# Altium schematic symbol library GN-1876-HI3519AV100_V1_Library.SchLib: 75 symbols (part 3 of 3)
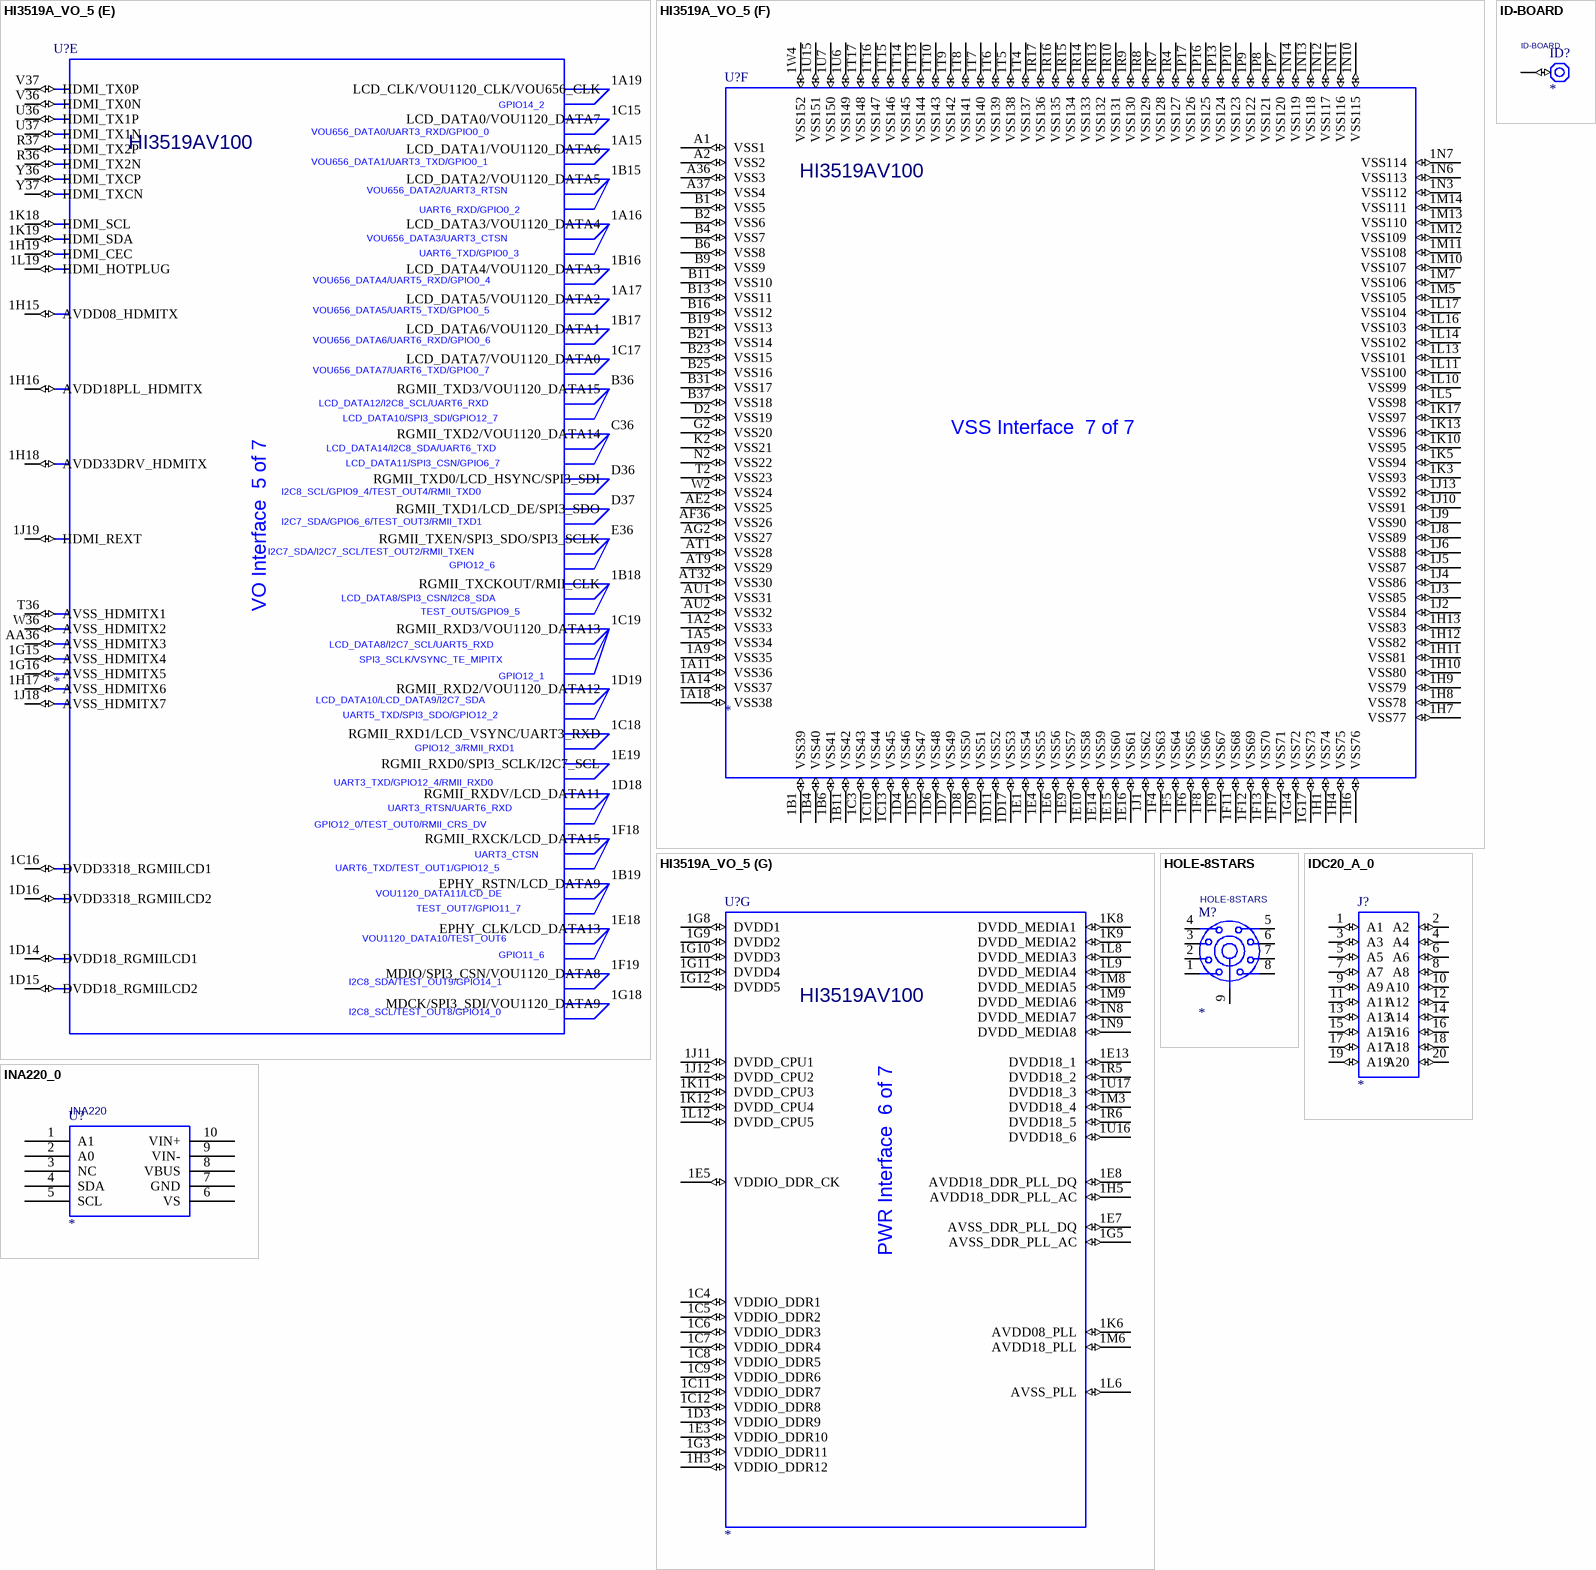
[diagram p25: symbols HI3519A_VO_5 to INA220_0]

## HI3519A_VO_5
designator U?  DEVICE: HI3519AV100
PARTS: 1; OriginalSymbolOrigin: (0,0); LEVEL: STD; HETERO: (HI3519A_DDR),(HI3519A_MIPI),(HI3519A_PER),(HI3519A_SYS),(HI3519A_VO),(HI3519A_PWR),(HI3519A_VSS)
part A pins: 1A1 DDR_DQ18 (io), 1A3 DDR_DQS2_P (io), 1A4 DDR_DQ17 (io), 1A6 DDR_DQ28 (io), 1A7 DDR_DQ4 (io), 1A8 DDR_DQ3 (io), 1A10 DDR_DQS0_N (io), 1A12 DDR_DQ5 (io), 1A13 DDR_DQ8 (io), 1B2 DDR_A14 (io), 1B3 DDR_DQS2_N (io), 1B5 DDR_DQ16 (io), 1B7 DDR_DQ6 (io), 1B8 DDR_DQ2 (io), 1B9 DDR_DM1 (io), 1B10 DDR_DQS0_P (io), 1B12 DDR_DQ10 (io), 1B13 DDR_DQ11 (io), 1C1 DDR_ODT0 (io), 1C2 DDR_ACT (io), 1D1 DDR_A10 (io), 1D2 DDR_A16 (io), 1E2 DDR_BA0 (io), 1F1 DDR_ODT1 (io), 1F2 DDR_CKE1 (io), 1F3 DDR_BG1 (io), 1G1 DDR_A13 (io), 1G2 DDR_RESET_N (io), 1H2 DDR_A11 (io), A3 DDR_DQ20 (io), A5 DDR_DQ23 (io), A7 DDR_DM2 (io), A8 DDR_DQ29 (io), A10 DDR_DQS3_P (io), A12 DDR_DM3 (io), A14 DDR_DQ30 (io), A15 DDR_DQ31 (io), A17 DDR_DQ7 (io), A18 DDR_DQ14 (io), A20 DDR_DQS1_P (io), A22 DDR_DQ1 (io), A23 DDR_DM0 (io), A24 DDR_DQ9 (io), B3 DDR_DQ22 (io), B5 DDR_DQ21 (io), B7 DDR_DQ19 (io), B8 DDR_DQ25 (io), B10 DDR_DQS3_N (io), B12 DDR_DQ26 (io), B14 DDR_DQ24 (io), B15 DDR_DQ27 (io), B17 DDR_DQ0 (io), B18 DDR_DQ12 (io), B20 DDR_DQS1_N (io), B22 DDR_DQ15 (io), B24 DDR_DQ13 (io), C1 DDR_CLK0_P (io), C2 DDR_CLK0_N (io), E1 DDR_CLK1_N (io), E2 DDR_CLK1_P (io), F1 DDR_CKE0 (io), F2 DDR_A12 (io), H1 DDR_A15 (io), H2 DDR_CS0_N (io), J1 DDR_BA1 (io), J2 DDR_CS1_N (io), L1 DDR_A3 (io), L2 DDR_BG0 (io), M1 DDR_A2 (io), M2 DDR_A4 (io), P1 DDR_A9 (io), P2 DDR_A0 (io), R1 DDR_A1 (io), R2 DDR_A5 (io), U1 DDR_A7 (io), U2 DDR_A6 (io), V1 DDR_A8 (io), V2 DDR_ZQ (io)
part B pins: 1B14 DVDD33, 1C14 DVDD3318, 1E11 DVDD18_LDO_DECAP_2, 1E12 DVDD18_LDO_DECAP_1, 1E17 DVDD3318_SDIO_VOUT, 1J15 AVDD08_COMBO_PHY, 1J16 AVSS_COMBO_PHY1, 1J17 AVSS_COMBO_PHY2, 1K16 AVDD18_COMBO_PHY, 1L15 AVDDH33_USB1, 1L18 PCIE_CLK_REQ_N, 1M15 AVDD33_USB1, 1M16 AVDD33_USB0, 1M17 AVDDH33_USB0, 1M18 USB3_REXT, 1M19 USB3_ID, 1N16 DVDD_USB1, 1N17 DVDD_USB0, 1N18 USB2_ID, 1N19 USB3_VBUS, 1P14 AVDD18_AC, 1P15 AVSS_AC9, 1P18 USB2_REXT, 1P19 USB2_VBUS, 1R18 USB_OVRCUR1/GPIO9_3, 1R19 USB_PWREN1/GPIO9_2, 1T18 USB_OVRCUR0/GPIO9_1, 1T19 USB_PWREN0/GPIO9_0, 1U18 UART2_TXD/GPIO6_5, 1U19 UART1_RTSN/UART4_RXD/GPIO8_6, 1V17 UART2_RXD/GPIO6_4, 1V18 UART1_TXD/GPIO8_5, 1V19 UART1_RXD/GPIO8_4, 1W19 UART1_CTSN/UART4_TXD/GPIO8_7, A27 SDIO0_CDATA2/VOU1120_DATA14, A29 SDIO0_CDATA0/VOU1120_DATA11, A31 SDIO0_CCLK_OUT/VOU1120_DATA8, A33 SDIO1_CCMD/LCD_DATA20/GPIO11_1, A35 SDIO1_CCLK_OUT/LCD_DATA23, AB36 COMBO_PHY_REFCLKP, AB37 COMBO_PHY_REFCLKM, AC36 AVSS_COMBO_PHY3, AD36 USB3_PCIE_TX0P, AD37 USB3_PCIE_TX0M, AE36 USB3_PCIE_RX0P, AE37 USB3_PCIE_RX0M, AG36 USB3_DP, AG37 USB3_DM, AH36 USB2_DM, AH37 USB2_DP, AJ2 UART0_TXD/GPIO1_5, AJ36 AVSS_AC1, AK2 UART0_RXD/GPIO1_4, AK36 AVSS_AC2, AK37 AC_VREF, AL35 AVSS_AC3, AL36 AC_MICBIAS1, AM36 AC_IN1R/AC_IN1N, AM37 AC_IN1L/AC_IN1P, AN36 AC_MICBIAS0, AP35 AVSS_AC4, AP36 AC_IN0R/AC_IN0N, AP37 AC_IN0L/AC_IN0P, AR36 AC_OUTR, AT35 AVSS_AC5, AT36 AC_OUTL, AT37 AVSS_AC6, AU36 AVSS_AC7, AU37 AVSS_AC8, B26 SDIO0_CCMD/VOU1120_DATA15, B27 SDIO0_CDATA3/VOU1120_DATA13, B28 SDIO0_CARD_POWER_EN, B29 SDIO0_CDATA1/VOU1120_DATA10, B30 SDIO0_CARD_DETECT, B32 SDIO1_CDATA2/LCD_DATA18, B33 SDIO1_CDATA3/LCD_DATA19, B34 SDIO1_CDATA0/LCD_DATA21, B35 SDIO1_CDATA1/LCD_DATA22
part C pins: 1F15 AVDD18_MIPITX (io), 1F16 AVSS_MIPITX5 (io), 1P11 AVDD18_MIPIRX (io), 1P12 AVDD08_MIPIRX (io), 1R11 AVSS_MIPIRX8 (io), 1R12 AVSS_MIPIRX9 (io), 1T11 AVSS_MIPIRX10 (io), 1T12 AVSS_MIPIRX11 (io), 1U3 SPI2_SDI/I2C6_SCL/GPIO4_6 (io), 1U4 SPI2_CSN/I2C6_SDA/GPIO4_7 (io), 1U5 SPI2_SCLK/I2C5_SCL/GPIO4_4 (io), 1U8 AVSS_MIPIRX12 (io), 1U9 AVSS_MIPIRX13 (io), 1U10 AVSS_MIPIRX14 (io), 1U11 AVSS_MIPIRX15 (io), 1U12 AVSS_MIPIRX16 (io), 1U13 AVSS_MIPIRX17 (io), 1U14 AVSS_MIPIRX18 (io), 1V4 SPI0_SDO/I2C1_SDA/GPIO3_1 (io), 1V5 SPI1_SDO/I2C3_SDA/GPIO3_5 (io), 1V6 SPI1_CSN/I2C4_SDA/GPIO3_7 (io), 1V7 AVSS_MIPIRX19 (io), 1V8 MIPI_RX2_D3N/VI0_DATA3 (io), 1V9 MIPI_RX2_D0P/VI0_DATA4 (io), 1V10 MIPI_RX1_CK1P (io), 1V11 AVSS_MIPIRX20 (io), 1V12 MIPI_RX1_D0N/VI1_DATA0/VI0_DATA8 (io), 1V13 MIPI_RX0_D1P (io), 1V14 MIPI_RX0_D2N (io), 1V15 AVSS_MIPIRX21 (io), 1V16 SENSOR_RSTN1/SENSOR_RSTN0 (io), 1W5 SPI2_SDO/I2C5_SDA/GPIO4_5 (io), 1W6 SPI0_CSN/I2C2_SDA/GPIO3_3 (io), 1W7 AVSS_MIPIRX22 (io), 1W8 MIPI_RX2_D3P/VI0_DATA7 (io), 1W9 MIPI_RX2_D0N/VI0_DATA0 (io), 1W10 MIPI_RX1_CK1N (io), 1W11 AVSS_MIPIRX23 (io), 1W12 MIPI_RX1_D0P/VI1_DATA4/VI0_DATA12 (io), 1W13 MIPI_RX0_D1N (io), 1W14 MIPI_RX0_D2P (io), 1W15 AVSS_MIPIRX24 (io), 1W16 SENSOR_HS0/COMBO_PHY_REFCLK_SEL (io), 1W17 SENSOR_RSTN0/SENSOR_RSTN1 (io), 1W18 SENSOR_VS1/BOOT_SEL4 (io), AT10 SPI1_SDI/I2C4_SCL/GPIO3_6 (io), AT11 SPI0_SDI/I2C2_SCL/GPIO3_2 (io), AT12 AVSS_MIPIRX1 (io), AT13 MIPI_RX2_CK1P/VI0_VS (io), AT14 AVSS_MIPIRX2 (io), AT15 MIPI_RX2_D1N/VI0_DATA1 (io), AT16 MIPI_RX2_CK0P (io), AT17 AVSS_MIPIRX3 (io), AT18 MIPI_RX2_D2N/VI0_DATA2 (io), AT19 MIPI_RX1_D3P/VI1_DATA7/VI0_DATA15 (io), AT20 AVSS_MIPIRX4 (io), AT21 MIPI_RX1_D1N/VI1_DATA1/VI0_DATA9 (io), AT22 MIPI_RX1_CK0P (io), AT23 AVSS_MIPIRX5 (io), AT24 MIPI_RX1_D2N/VI1_DATA2/VI0_DATA10 (io), AT25 MIPI_RX0_D3N (io), AT26 AVSS_MIPIRX6 (io), AT27 MIPI_RX0_CK0P (io), AT28 MIPI_RX0_D0N (io), AT29 AVSS_MIPIRX7 (io), AT30 SENSOR_VS0/BOOT_SEL3 (io), AT31 SENSOR_CLK2/BOOT_SEL2 (io), AT33 SENSOR_CLK0/BOOT_SEL0 (io), AT34 SENSOR_VS2/SFC_EMMC_BOOT_MODE (io), AU9 SPI1_SCLK/I2C3_SCL/GPIO3_4 (io), AU11 SPI0_SCLK/I2C1_SCL/GPIO3_0 (io), AU13 MIPI_RX2_CK1N/VI0_HS (io), AU15 MIPI_RX2_D1P/VI0_DATA5 (io), AU16 MIPI_RX2_CK0N/VI0_CLK (io), AU18 MIPI_RX2_D2P/VI0_DATA6 (io), AU19 MIPI_RX1_D3N/VI1_DATA3/VI0_DATA11 (io), AU21 MIPI_RX1_D1P/VI1_DATA5/VI0_DATA13 (io), AU22 MIPI_RX1_CK0N/VI1_CLK (io), AU24 MIPI_RX1_D2P/VI1_DATA6/VI0_DATA14 (io), AU25 MIPI_RX0_D3P (io), AU27 MIPI_RX0_CK0N (io), AU28 MIPI_RX0_D0P (io), AU30 SENSOR_HS1/PCIE_DEEMPH_SEL (io), AU32 SENSOR_RSTN2/SENSOR_RSTN0 (io), AU33 SENSOR_CLK1/BOOT_SEL1 (io), AU35 SENSOR_HS2/COMBO_PHY_MODE (io), F36 AVSS_MIPITX1 (io), G36 DSI_D3N/UART3_RXD/GPIO13_0 (io), G37 DSI_D3P/UART3_TXD/GPIO13_1 (io), H36 AVSS_MIPITX2 (io), J36 DSI_D2P/MDCK/GPIO9_7 (io), J37 DSI_D2N/MDIO/GPIO9_6 (io), K36 DSI_CKN/UART5_RXD (io), K37 DSI_CKP/UART5_TXD (io), L36 AVSS_MIPITX3 (io), M36 DSI_D1P/UART3_CTSN/UART6_TXD (io), M37 DSI_D1N/UART3_RTSN/UART6_RXD (io), N36 DSI_D0N/UART6_RXD/EPHY_RSTN (io), N37 DSI_D0P/UART6_TXD/EPHY_CLK (io), P36 AVSS_MIPITX4 (io)
part D pins: 1K1 PWR_STARTUP (io), 1K2 PWR_SEQ1 (io), 1K4 AVSS_LSADC (io), 1L1 PWR_EN1 (io), 1L2 PWR_SEQ2 (io), 1L3 DVDD18_PMC (io), 1L4 AVDD18_LSADC (io), 1M1 PWR_RSTN (io), 1M2 LSADC_CH2/GPIO1_2 (io), 1M4 DVDD18_OSC (io), 1N1 LSADC_CH0/GPIO1_0 (io), 1N2 LSADC_CH3/GPIO1_3 (io), 1N4 VDD_TEST_RTC (io), 1P1 LSADC_CH1/GPIO1_1 (io), 1P2 JTAG_TRSTN/I2S0_MCLK/I2S1_MCLK (io), 1P3 JTAG_EN (io), 1P4 AVDD_BAT_RTC (io), 1P5 AVSS_RTC2 (io), 1P6 AVDD18_EMMC (io), 1R1 TEST_MODE (io), 1R2 JTAG_TDI/I2S0_BCLK/I2S1_SD_RX1 (io), 1R3 JTAG_TDO/I2S1_SD_RX0 (io), 1T1 POR_SEL (io), 1T2 SVB_PWM1/SPI4_SDO/I2C9_SDA (io), 1T3 SVB_PWM0/SPI4_SCLK/I2C9_SCL (io), 1U1 GPIO2_7/IR_IN/I2S0_SD_RX (io), 1U2 SVB_PWM2/SPI4_SDI/GPIO4_2 (io), 1V1 GPIO4_3/SPI4_CSN/UPDATE_MODE_N (io), 1V2 NF_CLE/SFC_CSN1/GPIO6_3 (io), 1V3 NF_WEN/EMMC_RST_N/SFC_CSN0 (io), 1W1 NF_ALE/EMMC_POWER_EN/PWM_OUT7 (io), 1W2 NF_CSN/EMMC_CMD/PWM_OUT6 (io), 1W3 EMMC_ZCOMP (io), AA2 PWR_WAKEUP1 (io), AB1 PWR_EN0 (io), AB2 PWR_WAKEUP0 (io), AC2 AVSS_RTC1 (io), AD1 RTC_XOUT (io), AD2 RTC_XIN (io), AF1 XIN (io), AF2 XOUT (io), AH1 JTAG_TCK/I2S1_BCLK/UART7_TXD (io), AH2 JTAG_TMS/I2S1_WS/UART7_RTSN (io), AK1 RST_N (io), AL2 SYS_RSTN_OUT/WDG_RSTN (io), AM1 GPIO2_6/I2S0_SD_TX/UART8_RTSN (io), AM2 GPIO2_5/I2S0_WS/UART8_TXD (io), AN2 PWM_OUT0/GPIO1_6 (io), AP1 I2C0_SDA (io), AP2 I2C0_SCL (io), AR2 PWM_OUT1/GPIO1_7 (io), AT2 NF_RDY/EMMC_DS (io), AT3 NF_DQ7/EMMC_DATA6/SFC_WP_IO2 (io), AT4 NF_DQ6/EMMC_DATA5/SFC_HOLD_IO3 (io), AT5 NF_DQ4/EMMC_DATA4/SFC_MISO_IO1 (io), AT6 NF_DQ3/EMMC_DATA0/PWM_OUT2 (io), AT7 NF_DQ1/EMMC_DATA2/PWM_OUT4 (io), AT8 NF_DQ0/EMMC_DATA7/PWM_OUT5 (io), AU3 NF_REN/EMMC_CLK/SFC_CLK (io), AU5 NF_DQ5/EMMC_DATA3/SFC_MOSI_IO0 (io), AU7 NF_DQ2/EMMC_DATA1/PWM_OUT3 (io), Y1 PWR_SEQ0 (io), Y2 PWR_BUTTON0 (io)
part E pins: 1A15 LCD_DATA1/VOU1120_DATA6 (io), 1A16 LCD_DATA3/VOU1120_DATA4 (io), 1A17 LCD_DATA5/VOU1120_DATA2 (io), 1A19 LCD_CLK/VOU1120_CLK/VOU656_CLK (io), 1B15 LCD_DATA2/VOU1120_DATA5 (io), 1B16 LCD_DATA4/VOU1120_DATA3 (io), 1B17 LCD_DATA6/VOU1120_DATA1 (io), 1B18 RGMII_TXCKOUT/RMII_CLK (io), 1B19 EPHY_RSTN/LCD_DATA9 (io), 1C15 LCD_DATA0/VOU1120_DATA7 (io), 1C16 DVDD3318_RGMIILCD1 (io), 1C17 LCD_DATA7/VOU1120_DATA0 (io), 1C18 RGMII_RXD1/LCD_VSYNC/UART3_RXD (io), 1C19 RGMII_RXD3/VOU1120_DATA13 (io), 1D14 DVDD18_RGMIILCD1 (io), 1D15 DVDD18_RGMIILCD2 (io), 1D16 DVDD3318_RGMIILCD2 (io), 1D18 RGMII_RXDV/LCD_DATA11 (io), 1D19 RGMII_RXD2/VOU1120_DATA12 (io), 1E18 EPHY_CLK/LCD_DATA13 (io), 1E19 RGMII_RXD0/SPI3_SCLK/I2C7_SCL (io), 1F18 RGMII_RXCK/LCD_DATA15 (io), 1F19 MDIO/SPI3_CSN/VOU1120_DATA8 (io), 1G15 AVSS_HDMITX4 (io), 1G16 AVSS_HDMITX5 (io), 1G18 MDCK/SPI3_SDI/VOU1120_DATA9 (io), 1H15 AVDD08_HDMITX (io), 1H16 AVDD18PLL_HDMITX (io), 1H17 AVSS_HDMITX6 (io), 1H18 AVDD33DRV_HDMITX (io), 1H19 HDMI_CEC (io), 1J18 AVSS_HDMITX7 (io), 1J19 HDMI_REXT (io), 1K18 HDMI_SCL (io), 1K19 HDMI_SDA (io), 1L19 HDMI_HOTPLUG (io), AA36 AVSS_HDMITX3 (io), B36 RGMII_TXD3/VOU1120_DATA15 (io), C36 RGMII_TXD2/VOU1120_DATA14 (io), D36 RGMII_TXD0/LCD_HSYNC/SPI3_SDI (io), D37 RGMII_TXD1/LCD_DE/SPI3_SDO (io), E36 RGMII_TXEN/SPI3_SDO/SPI3_SCLK (io), R36 HDMI_TX2N (io), R37 HDMI_TX2P (io), T36 AVSS_HDMITX1 (io), U36 HDMI_TX1P (io), U37 HDMI_TX1N (io), V36 HDMI_TX0N (io), V37 HDMI_TX0P (io), W36 AVSS_HDMITX2 (io), Y36 HDMI_TXCP (io), Y37 HDMI_TXCN (io)
part F pins: 1A2 VSS33 (io), 1A5 VSS34 (io), 1A9 VSS35 (io), 1A11 VSS36 (io), 1A14 VSS37 (io), 1A18 VSS38 (io), 1B1 VSS39 (io), 1B4 VSS40 (io), 1B6 VSS41 (io), 1B11 VSS42 (io), 1C3 VSS43 (io), 1C10 VSS44 (io), 1C13 VSS45 (io), 1D4 VSS46 (io), 1D5 VSS47 (io), 1D6 VSS48 (io), 1D7 VSS49 (io), 1D8 VSS50 (io), 1D9 VSS51 (io), 1D11 VSS52 (io), 1D17 VSS53 (io), 1E1 VSS54 (io), 1E4 VSS55 (io), 1E6 VSS56 (io), 1E9 VSS57 (io), 1E10 VSS58 (io), 1E14 VSS59 (io), 1E15 VSS60 (io), 1E16 VSS61 (io), 1F4 VSS63 (io), 1F5 VSS64 (io), 1F6 VSS65 (io), 1F8 VSS66 (io), 1F9 VSS67 (io), 1F11 VSS68 (io), 1F12 VSS69 (io), 1F13 VSS70 (io), 1F17 VSS71 (io), 1G4 VSS72 (io), 1G17 VSS73 (io), 1H1 VSS74 (io), 1H4 VSS75 (io), 1H6 VSS76 (io), 1H7 VSS77 (io), 1H8 VSS78 (io), 1H9 VSS79 (io), 1H10 VSS80 (io), 1H11 VSS81 (io), 1H12 VSS82 (io), 1H13 VSS83 (io), 1J1 VSS62 (io), 1J2 VSS84 (io), 1J3 VSS85 (io), 1J4 VSS86 (io), 1J5 VSS87 (io), 1J6 VSS88 (io), 1J8 VSS89 (io), 1J9 VSS90 (io), 1J10 VSS91 (io), 1J13 VSS92 (io), 1K3 VSS93 (io), 1K5 VSS94 (io), 1K10 VSS95 (io), 1K13 VSS96 (io), 1K17 VSS97 (io), 1L5 VSS98 (io), 1L10 VSS99 (io), 1L11 VSS100 (io), 1L13 VSS101 (io), 1L14 VSS102 (io), 1L16 VSS103 (io), 1L17 VSS104 (io), 1M5 VSS105 (io), 1M7 VSS106 (io), 1M10 VSS107 (io), 1M11 VSS108 (io), 1M12 VSS109 (io), 1M13 VSS110 (io), 1M14 VSS111 (io), 1N3 VSS112 (io), 1N6 VSS113 (io), 1N7 VSS114 (io), 1N10 VSS115 (io), 1N11 VSS116 (io), 1N12 VSS117 (io), 1N13 VSS118 (io), 1N14 VSS119 (io), 1P7 VSS120 (io), 1P8 VSS121 (io), 1P9 VSS122 (io), 1P10 VSS123 (io), 1P13 VSS124 (io), 1P16 VSS125 (io), 1P17 VSS126 (io), 1R4 VSS127 (io), 1R7 VSS128 (io), 1R8 VSS129 (io), 1R9 VSS130 (io), 1R10 VSS131 (io), 1R13 VSS132 (io), 1R14 VSS133 (io), 1R15 VSS134 (io), 1R16 VSS135 (io), 1R17 VSS136 (io), 1T4 VSS137 (io), 1T5 VSS138 (io), 1T6 VSS139 (io), 1T7 VSS140 (io), 1T8 VSS141 (io), 1T9 VSS142 (io), 1T10 VSS143 (io), 1T13 VSS144 (io), 1T14 VSS145 (io), 1T15 VSS146 (io), 1T16 VSS147 (io), 1T17 VSS148 (io), 1U6 VSS149 (io), 1U7 VSS150 (io), 1U15 VSS151 (io), 1W4 VSS152 (io), A1 VSS1 (io), A2 VSS2 (io), A36 VSS3 (io), A37 VSS4 (io), AE2 VSS25 (io), AF36 VSS26 (io), AG2 VSS27 (io), AT1 VSS28 (io), AT9 VSS29 (io), AT32 VSS30 (io), AU1 VSS31 (io), AU2 VSS32 (io), B1 VSS5 (io), B2 VSS6 (io), B4 VSS7 (io), B6 VSS8 (io), B9 VSS9 (io), B11 VSS10 (io), B13 VSS11 (io), B16 VSS12 (io), B19 VSS13 (io), B21 VSS14 (io), B23 VSS15 (io), B25 VSS16 (io), B31 VSS17 (io), B37 VSS18 (io), D2 VSS19 (io), G2 VSS20 (io), K2 VSS21 (io), N2 VSS22 (io), T2 VSS23 (io), W2 VSS24 (io)
part G pins: 1C4 VDDIO_DDR1 (io), 1C5 VDDIO_DDR2 (io), 1C6 VDDIO_DDR3 (io), 1C7 VDDIO_DDR4 (io), 1C8 VDDIO_DDR5 (io), 1C9 VDDIO_DDR6 (io), 1C11 VDDIO_DDR7 (io), 1C12 VDDIO_DDR8 (io), 1D3 VDDIO_DDR9 (io), 1E3 VDDIO_DDR10 (io), 1E5 VDDIO_DDR_CK (io), 1E7 AVSS_DDR_PLL_DQ (io), 1E8 AVDD18_DDR_PLL_DQ (io), 1E13 DVDD18_1 (io), 1G3 VDDIO_DDR11 (io), 1G5 AVSS_DDR_PLL_AC (io), 1G8 DVDD1 (io), 1G9 DVDD2 (io), 1G10 DVDD3 (io), 1G11 DVDD4 (io), 1G12 DVDD5 (io), 1H3 VDDIO_DDR12 (io), 1H5 AVDD18_DDR_PLL_AC (io), 1J11 DVDD_CPU1 (io), 1J12 DVDD_CPU2 (io), 1K6 AVDD08_PLL (io), 1K8 DVDD_MEDIA1 (io), 1K9 DVDD_MEDIA2 (io), 1K11 DVDD_CPU3 (io), 1K12 DVDD_CPU4 (io), 1L6 AVSS_PLL (io), 1L8 DVDD_MEDIA3 (io), 1L9 DVDD_MEDIA4 (io), 1L12 DVDD_CPU5 (io), 1M3 DVDD18_4 (io), 1M6 AVDD18_PLL (io), 1M8 DVDD_MEDIA5 (io), 1M9 DVDD_MEDIA6 (io), 1N8 DVDD_MEDIA7 (io), 1N9 DVDD_MEDIA8 (io), 1R5 DVDD18_2 (io), 1R6 DVDD18_5 (io), 1U16 DVDD18_6 (io), 1U17 DVDD18_3 (io)
part A text: DDR Interface  1 of 7
part B text: LCD_DATA17/JTAG_TCK/GPIO10_2; LCD_DATA12/GPIO10_3; LCD_DATA14/JTAG_TMS/GPIO10_4; LCD_DATA15/JTAG_TDO/GPIO10_5; LCD_VSYNC/JTAG_TDI/GPIO10_6; LCD_HSYNC/JTAG_TRSTN/GPIO10_7; VOU1120_DATA9/LCD_DATA16; GPIO10_1; VOU1120_DATA12/LCD_DATA13; GPIO10_0; GPIO11_0; GPIO11_2; GPIO11_3; GPIO11_4; GPIO11_5; PER Interface  3 of 7
part C text: GPIO13_7; GPIO13_6; GPIO13_3; GPIO13_2; GPIO13_5; GPIO13_4; SPI0_3WIRE_CLK; SPI0_3WIRE_DATA; SPI0_3WIRE_CSN; SPI1_3WIRE_CLK; MIPI Interface  2 of 7; SPI1_3WIRE_DATA; SPI1_3WIRE_CSN; SENSOR_CLK1/SENSOR_CLK2/GPIO7_6; SENSOR_VS1/SENSOR_VS2/GPIO7_1; SENSOR_HS1/SENSOR_HS2/GPIO7_0; SENSOR_RSTN2/GPIO7_7; SENSOR_CLK0/SENSOR_CLK2/GPIO8_0; SENSOR_VS0/SENSOR_VS2/GPIO7_3; SENSOR_HS0/SENSOR_HS2/GPIO7_2; SENSOR_RSTN2/GPIO8_1; SENSOR_CLK0/SENSOR_CLK1; TEST_CLK/GPIO8_2; SHUTTER_TRIG/SENSOR_VS0; SENSOR_VS1/GPIO7_5; FLASH_TRIG/SENSOR_HS0; SENSOR_HS1/GPIO7_4; SENSOR_RSTN1/GPIO8_3
part D text: GPIO5_7; GPIO5_2; GPIO5_1; GPIO5_0; GPIO5_4; GPIO5_5; GPIO5_3; GPIO5_6; GPIO6_1; GPIO6_2; GPIO6_0; SYS Interface  4 of 7; UART7_RXD/GPIO2_0; GPIO2_1; GPIO2_2; UART7_CTSN/GPIO2_3; UART8_RXD/GPIO2_4; GPIO4_0; I2S1_SD_RX2; GPIO4_1; I2S1_SD_RX3; UART8_CTSN/I2S0_MCLK
part E text: GPIO14_2; VOU656_DATA0/UART3_RXD/GPIO0_0; VOU656_DATA1/UART3_TXD/GPIO0_1; VOU656_DATA2/UART3_RTSN; UART6_RXD/GPIO0_2; VOU656_DATA3/UART3_CTSN; UART6_TXD/GPIO0_3; VOU656_DATA4/UART5_RXD/GPIO0_4; VOU656_DATA5/UART5_TXD/GPIO0_5; VOU656_DATA6/UART6_RXD/GPIO0_6; VOU656_DATA7/UART6_TXD/GPIO0_7; LCD_DATA12/I2C8_SCL/UART6_RXD; LCD_DATA10/SPI3_SDI/GPIO12_7; LCD_DATA14/I2C8_SDA/UART6_TXD; LCD_DATA11/SPI3_CSN/GPIO6_7; I2C8_SCL/GPIO9_4/TEST_OUT4/RMII_TXD0; I2C7_SDA/GPIO6_6/TEST_OUT3/RMII_TXD1; I2C7_SDA/I2C7_SCL/TEST_OUT2/RMII_TXEN; GPIO12_6; LCD_DATA8/SPI3_CSN/I2C8_SDA; VO Interface  5 of 7; TEST_OUT5/GPIO9_5; LCD_DATA8/I2C7_SCL/UART5_RXD; SPI3_SCLK/VSYNC_TE_MIPITX; GPIO12_1; LCD_DATA10/LCD_DATA9/I2C7_SDA; UART5_TXD/SPI3_SDO/GPIO12_2; GPIO12_3/RMII_RXD1; UART3_TXD/GPIO12_4/RMII_RXD0; UART3_RTSN/UART6_RXD; GPIO12_0/TEST_OUT0/RMII_CRS_DV; UART3_CTSN; UART6_TXD/TEST_OUT1/GPIO12_5; VOU1120_DATA11/LCD_DE; TEST_OUT7/GPIO11_7; VOU1120_DATA10/TEST_OUT6; GPIO11_6; I2C8_SDA/TEST_OUT9/GPIO14_1; I2C8_SCL/TEST_OUT8/GPIO14_0
part F text: VSS Interface  7 of 7
part G text: PWR Interface  6 of 7

## HOLE-8STARS
designator M?  DEVICE: HOLE-8STARS
PARTS: 1; OriginalSymbolOrigin: (0,0); LEVEL: STD; PKG_TYPE: HOLE125-8STAR
pins: 1 GND0 (io), 2 GND1 (io), 3 GND2 (io), 4 GND3 (io), 5 GND4 (io), 6 GND5 (io), 7 GND6 (io), 8 GND7 (io), 9 HOLE (io)

## ID-BOARD
designator ID?  DEVICE: ID-BOARD
PARTS: 1; OriginalSymbolOrigin: (0,0); LEVEL: STD; PKG_TYPE: ID-BOARD
pins: 1 (io)

## IDC20_A_0
designator J?
PARTS: 1; DEVICE: 88880-050LF; LEVEL: STD; OriginalSymbolOrigin: (0,0)
pins: 1 A1 (io), 2 A2 (io), 3 A3 (io), 4 A4 (io), 5 A5 (io), 6 A6 (io), 7 A7 (io), 8 A8 (io), 9 A9 (io), 10 A10 (io), 11 A11 (io), 12 A12 (io), 13 A13 (io), 14 A14 (io), 15 A15 (io), 16 A16 (io), 17 A17 (io), 18 A18 (io), 19 A19 (io), 20 A20 (io)

## INA220_0
designator U?  DEVICE: INA220
PARTS: 1; OriginalSymbolOrigin: (0,0); LEVEL: STD
pins: 1 A1, 2 A0, 3 NC, 4 SDA, 5 SCL, 6 VS, 7 GND, 8 VBUS, 9 VIN-, 10 VIN+

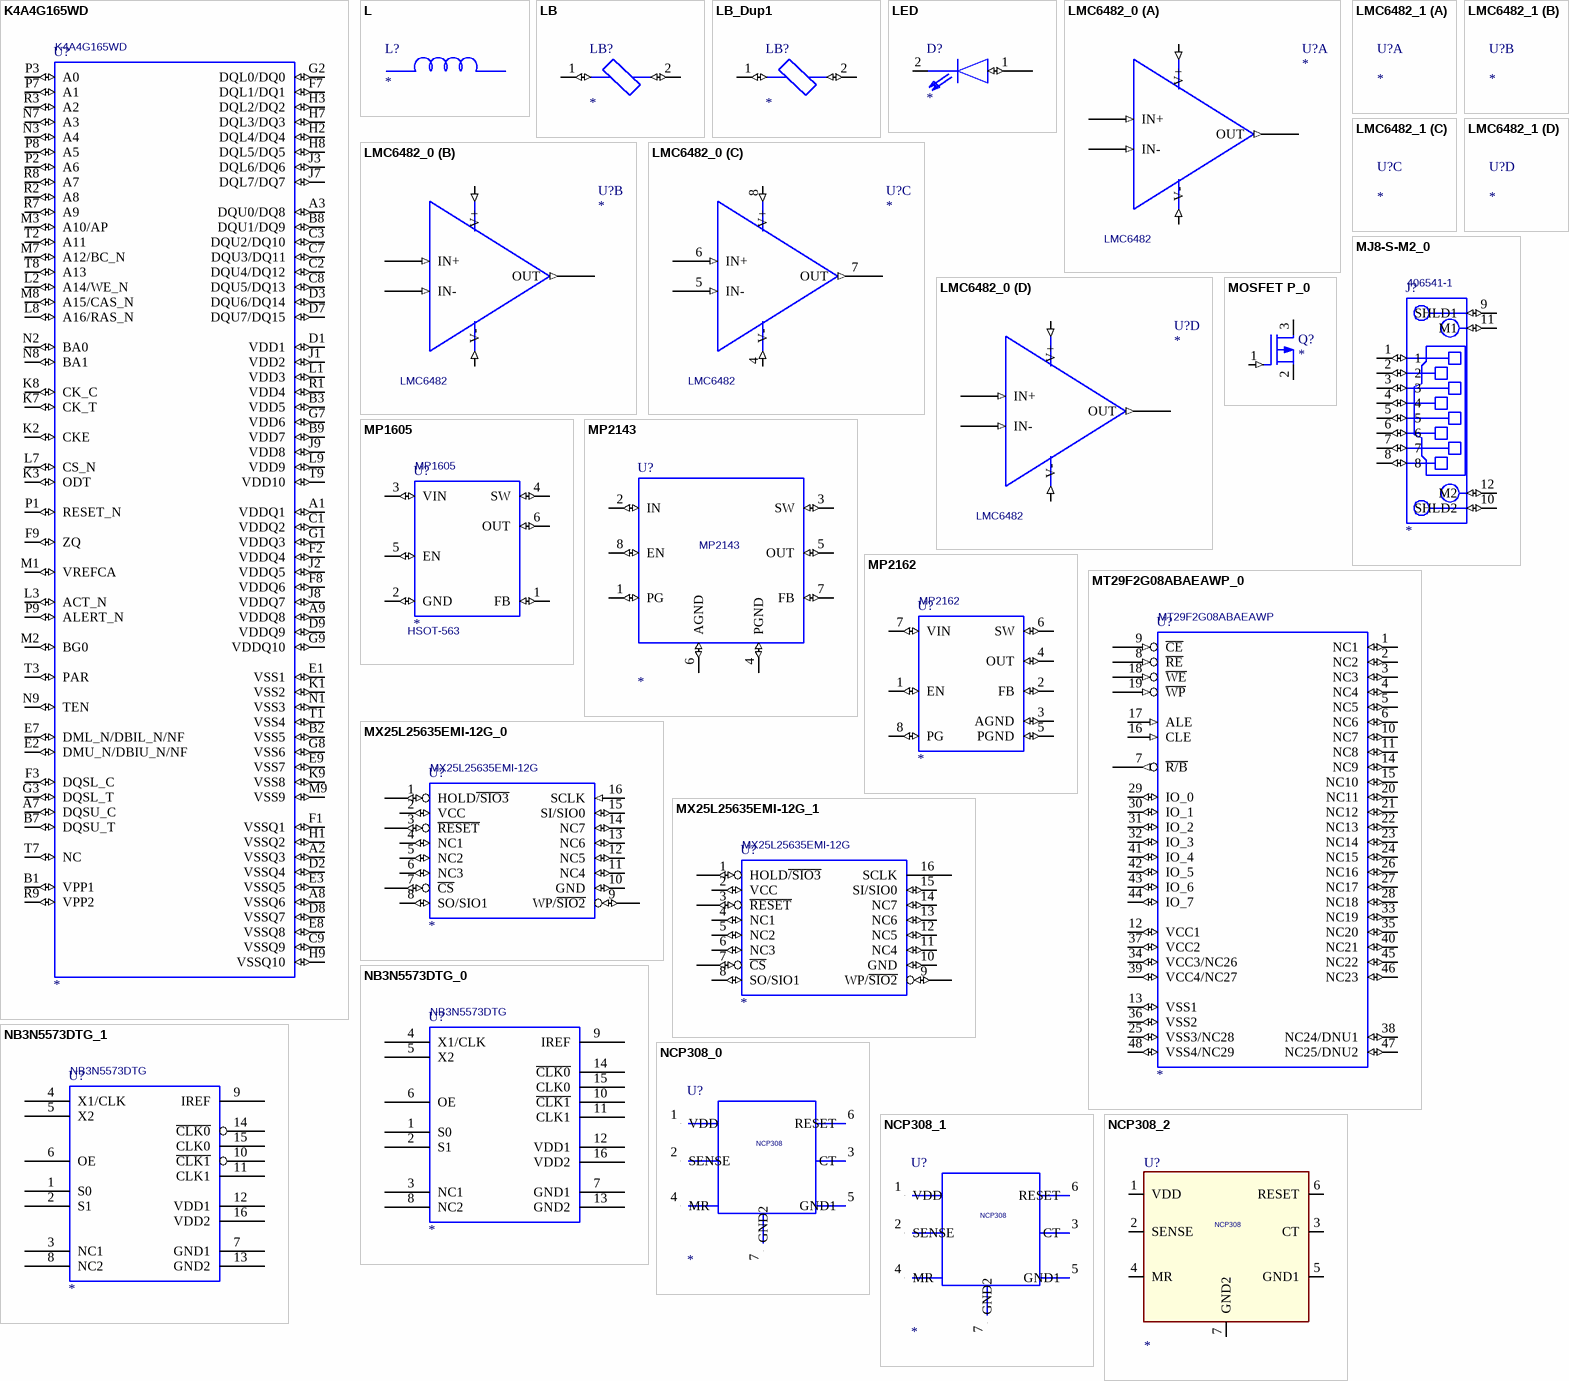
[diagram p21: symbols K4A4G165WD to NCP308_2]

## K4A4G165WD
designator U?  DEVICE: K4A4G165WD
PARTS: 1; OriginalSymbolOrigin: (0,0); LEVEL: STD
pins: A1 VDDQ1 (io), A2 VSSQ3 (io), A3 DQU0/DQ8 (io), A7 DQSU_C (io), A8 VSSQ6 (io), A9 VDDQ8 (io), B1 VPP1 (io), B2 VSS5 (io), B3 VDD5 (io), B7 DQSU_T (io), B8 DQU1/DQ9 (io), B9 VDD7 (io), C1 VDDQ2 (io), C2 DQU4/DQ12 (io), C3 DQU2/DQ10 (io), C7 DQU3/DQ11 (io), C8 DQU5/DQ13 (io), C9 VSSQ9 (io), D1 VDD1 (io), D2 VSSQ4 (io), D3 DQU6/DQ14 (io), D7 DQU7/DQ15 (io), D8 VSSQ7 (io), D9 VDDQ9 (io), E1 VSS1 (io), E2 DMU_N/DBIU_N/NF (io), E3 VSSQ5 (io), E7 DML_N/DBIL_N/NF (io), E8 VSSQ8 (io), E9 VSS7 (io), F1 VSSQ1 (io), F2 VDDQ4 (io), F3 DQSL_C (io), F7 DQL1/DQ1 (io), F8 VDDQ6 (io), F9 ZQ (io), G1 VDDQ3 (io), G2 DQL0/DQ0 (io), G3 DQSL_T (io), G7 VDD6 (io), G8 VSS6 (io), G9 VDDQ10 (io), H1 VSSQ2 (io), H2 DQL4/DQ4 (io), H3 DQL2/DQ2 (io), H7 DQL3/DQ3 (io), H8 DQL5/DQ5 (io), H9 VSSQ10 (io), J1 VDD2 (io), J2 VDDQ5 (io), J3 DQL6/DQ6 (io), J7 DQL7/DQ7 (io), J8 VDDQ7 (io), J9 VDD8 (io), K1 VSS2 (io), K2 CKE (io), K3 ODT (io), K7 CK_T (io), K8 CK_C (io), K9 VSS8 (io), L1 VDD3 (io), L2 A14/WE_N (io), L3 ACT_N (io), L7 CS_N (io), L8 A16/RAS_N (io), L9 VDD9 (io), M1 VREFCA (io), M2 BG0 (io), M3 A10/AP (io), M7 A12/BC_N (io), M8 A15/CAS_N (io), M9 VSS9 (io), N1 VSS3 (io), N2 BA0 (io), N3 A4 (io), N7 A3 (io), N8 BA1 (io), N9 TEN (io), P1 RESET_N (io), P2 A6 (io), P3 A0 (io), P7 A1 (io), P8 A5 (io), P9 ALERT_N (io), R1 VDD4 (io), R2 A8 (io), R3 A2 (io), R7 A9 (io), R8 A7 (io), R9 VPP2 (io), T1 VSS4 (io), T2 A11 (io), T3 PAR (io), T7 NC (io), T8 A13 (io), T9 VDD10 (io)

## L
designator L?
PARTS: 1; DEVICE: L; LEVEL: STD; PKG_TYPE: 2; OriginalSymbolOrigin: (-20,0)
pins: 1 A (io), 2 B (io)

## LB
designator LB?
PARTS: 1; OriginalSymbolOrigin: (0,0); LEVEL: STD; DEVICE: LB
pins: 1 (io), 2 (io)

## LB_Dup1
designator LB?
PARTS: 1; OriginalSymbolOrigin: (0,0); LEVEL: STD; DEVICE: LB
pins: 1 (io), 2 (io)

## LED
designator D?
PARTS: 1; OriginalSymbolOrigin: (0,0); DEVICE: LED; PKG_TYPE: 2; LEVEL: STD
pins: 1 A (io), 2 B (io)

## LMC6482_0
designator U?  DEVICE: LMC6482
PARTS: 2; OriginalSymbolOrigin: (0,0); LEVEL: STD
part A pins: IN+ (in), IN- (in), OUT (out), V+ (in), V- (in)
part B pins: IN+ (in), IN- (in), OUT (out), V+ (in), V- (in)
part C pins: 4 V- (in), 5 IN- (in), 6 IN+ (in), 7 OUT (out), 8 V+ (in)
part D pins: IN+ (in), IN- (in), OUT (out), V+ (in), V- (in)

## LMC6482_1
designator U?
PARTS: 2; OriginalSymbolOrigin: (0,0); LEVEL: STD; DEVICE: LMC6482

## MJ8-S-M2_0
designator J?  DEVICE: 406541-1
PARTS: 1; LEVEL: STD; OriginalSymbolOrigin: (0,0)
pins: 1 (io), 2 (io), 3 (io), 4 (io), 5 (io), 6 (io), 7 (io), 8 (io), 9 SHLD1 (io), 10 SHLD2 (io), 11 M1 (io), 12 M2 (io)

## MOSFET P_0
designator Q?
pins: 1 GATE (in), 2 SOURCE, 3 DRAIN

## MP1605
designator U?  DEVICE: MP1605  PKG_TYPE: HSOT-563
PARTS: 1; OriginalSymbolOrigin: (0,0); CODE: HKTB4023; LEVEL: STD
pins: 1 FB (io), 2 GND (io), 3 VIN (io), 4 SW (io), 5 EN (io), 6 OUT (io)

## MP2143
designator U?  DEVICE: MP2143
PARTS: 1; OriginalSymbolOrigin: (0,0); LEVEL: STD
pins: 1 PG (io), 2 IN (io), 3 SW (io), 4 PGND (io), 5 OUT (io), 6 AGND (io), 7 FB (io), 8 EN (io)

## MP2162
designator U?  DEVICE: MP2162
PARTS: 1; OriginalSymbolOrigin: (0,0); LEVEL: STD
pins: 1 EN (io), 2 FB (io), 3 AGND (io), 4 OUT (io), 5 PGND (io), 6 SW (io), 7 VIN (io), 8 PG (io)

## MT29F2G08ABAEAWP_0
designator U?  DEVICE: MT29F2G08ABAEAWP
PARTS: 1; LEVEL: STD; OriginalSymbolOrigin: (0,0)
pins: 1 NC1 (io), 2 NC2 (io), 3 NC3 (io), 4 NC4 (io), 5 NC5 (io), 6 NC6 (io), 7 ~{R/B} (out), 8 ~{RE} (in), 9 ~{CE} (in), 10 NC7 (io), 11 NC8 (io), 12 VCC1 (io), 13 VSS1 (io), 14 NC9 (io), 15 NC10 (io), 16 CLE (in), 17 ALE (in), 18 ~{WE} (in), 19 ~{WP} (in), 20 NC11 (io), 21 NC12 (io), 22 NC13 (io), 23 NC14 (io), 24 NC15 (io), 25 VSS3/NC28 (io), 26 NC16 (io), 27 NC17 (io), 28 NC18 (io), 29 IO_0 (io), 30 IO_1 (io), 31 IO_2 (io), 32 IO_3 (io), 33 NC19 (io), 34 VCC3/NC26 (io), 35 NC20 (io), 36 VSS2 (io), 37 VCC2 (io), 38 NC24/DNU1 (io), 39 VCC4/NC27 (io), 40 NC21 (io), 41 IO_4 (io), 42 IO_5 (io), 43 IO_6 (io), 44 IO_7 (io), 45 NC22 (io), 46 NC23 (io), 47 NC25/DNU2 (io), 48 VSS4/NC29 (io)

## MX25L25635EMI-12G_0
designator U?  DEVICE: MX25L25635EMI-12G
PARTS: 1; LEVEL: STD; OriginalSymbolOrigin: (0,0)
pins: 1 HOLD~{/SIO3} (io), 2 VCC (io), 3 ~{RESET} (io), 4 NC1 (io), 5 NC2 (io), 6 NC3 (io), 7 ~{CS} (io), 8 SO/SIO1 (io), 9 WP/~{SIO2} (io), 10 GND (io), 11 NC4 (io), 12 NC5 (io), 13 NC6 (io), 14 NC7 (io), 15 SI/SIO0 (io), 16 SCLK (in)

## MX25L25635EMI-12G_1
designator U?  DEVICE: MX25L25635EMI-12G
PARTS: 1; OriginalSymbolOrigin: (0,0); LEVEL: STD
pins: 1 HOLD~{/SIO3} (io), 2 VCC (io), 3 ~{RESET} (io), 4 NC1 (io), 5 NC2 (io), 6 NC3 (io), 7 ~{CS} (io), 8 SO/SIO1 (io), 9 WP/~{SIO2} (io), 10 GND (io), 11 NC4 (io), 12 NC5 (io), 13 NC6 (io), 14 NC7 (io), 15 SI/SIO0 (io), 16 SCLK

## NB3N5573DTG_0
designator U?  DEVICE: NB3N5573DTG
PARTS: 1; OriginalSymbolOrigin: (0,0); LEVEL: STD
pins: 1 S0, 2 S1, 3 NC1, 4 X1/CLK, 5 X2, 6 OE, 7 GND1, 8 NC2, 9 IREF, 10 ~{CLK1}, 11 CLK1, 12 VDD1, 13 GND2, 14 ~{CLK0}, 15 CLK0, 16 VDD2

## NB3N5573DTG_1
designator U?  DEVICE: NB3N5573DTG
PARTS: 1; LEVEL: STD; OriginalSymbolOrigin: (0,0)
pins: 1 S0, 2 S1, 3 NC1, 4 X1/CLK, 5 X2, 6 OE, 7 GND1, 8 NC2, 9 IREF, 10 ~{CLK1}, 11 CLK1, 12 VDD1, 13 GND2, 14 ~{CLK0}, 15 CLK0, 16 VDD2

## NCP308_0
designator U?  DEVICE: NCP308
PARTS: 1; LEVEL: STD; OriginalSymbolOrigin: (0,0); HETERO: NCP308
pins: 1 VDD (io), 2 SENSE (io), 3 CT (io), 4 MR (io), 5 GND1 (io), 6 RESET (io), 7 GND2 (io)

## NCP308_1
designator U?  DEVICE: NCP308
PARTS: 1; LEVEL: STD; OriginalSymbolOrigin: (0,0); HETERO: NCP308
pins: 1 VDD (io), 2 SENSE (io), 3 CT (io), 4 MR (io), 5 GND1 (io), 6 RESET (io), 7 GND2 (io)

## NCP308_2
designator U?  DEVICE: NCP308
PARTS: 1; OriginalSymbolOrigin: (0,0); LEVEL: STD; HETERO: NCP308
pins: 1 VDD, 2 SENSE, 3 CT, 4 MR, 5 GND1, 6 RESET, 7 GND2

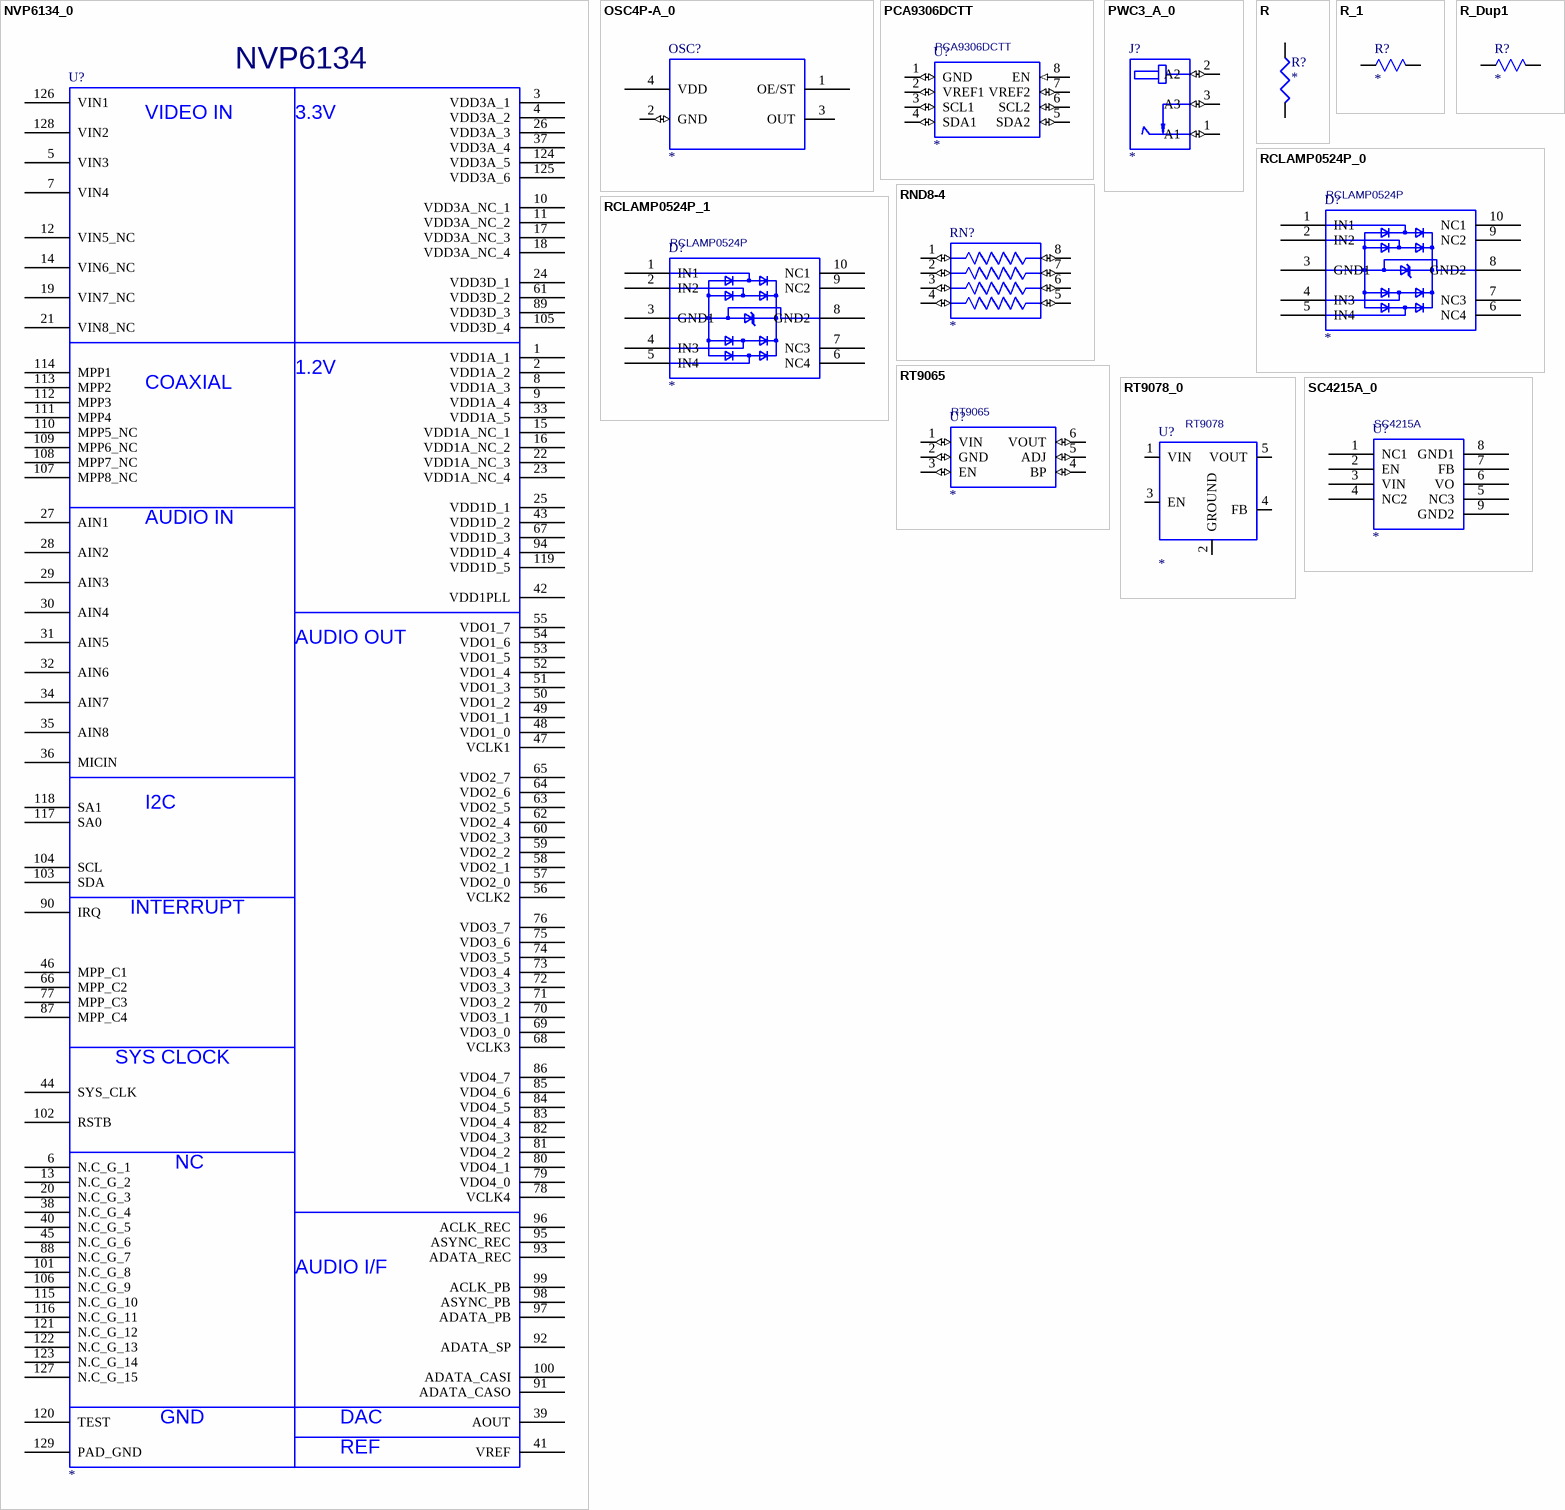
[diagram p22: symbols NVP6134_0 to SC4215A_0]

## NVP6134_0
designator U?  DEVICE: NVP6134
PARTS: 1; OriginalSymbolOrigin: (0,0); LEVEL: STD
pins: 1 VDD1A_1, 2 VDD1A_2, 3 VDD3A_1, 4 VDD3A_2, 5 VIN3, 6 N.C_G_1, 7 VIN4, 8 VDD1A_3, 9 VDD1A_4, 10 VDD3A_NC_1, 11 VDD3A_NC_2, 12 VIN5_NC, 13 N.C_G_2, 14 VIN6_NC, 15 VDD1A_NC_1, 16 VDD1A_NC_2, 17 VDD3A_NC_3, 18 VDD3A_NC_4, 19 VIN7_NC, 20 N.C_G_3, 21 VIN8_NC, 22 VDD1A_NC_3, 23 VDD1A_NC_4, 24 VDD3D_1, 25 VDD1D_1, 26 VDD3A_3, 27 AIN1, 28 AIN2, 29 AIN3, 30 AIN4, 31 AIN5, 32 AIN6, 33 VDD1A_5, 34 AIN7, 35 AIN8, 36 MICIN, 37 VDD3A_4, 38 N.C_G_4, 39 AOUT, 40 N.C_G_5, 41 VREF, 42 VDD1PLL, 43 VDD1D_2, 44 SYS_CLK, 45 N.C_G_6, 46 MPP_C1, 47 VCLK1, 48 VDO1_0, 49 VDO1_1, 50 VDO1_2, 51 VDO1_3, 52 VDO1_4, 53 VDO1_5, 54 VDO1_6, 55 VDO1_7, 56 VCLK2, 57 VDO2_0, 58 VDO2_1, 59 VDO2_2, 60 VDO2_3, 61 VDD3D_2, 62 VDO2_4, 63 VDO2_5, 64 VDO2_6, 65 VDO2_7, 66 MPP_C2, 67 VDD1D_3, 68 VCLK3, 69 VDO3_0, 70 VDO3_1, 71 VDO3_2, 72 VDO3_3, 73 VDO3_4, 74 VDO3_5, 75 VDO3_6, 76 VDO3_7, 77 MPP_C3, 78 VCLK4, 79 VDO4_0, 80 VDO4_1, 81 VDO4_2, 82 VDO4_3, 83 VDO4_4, 84 VDO4_5, 85 VDO4_6, 86 VDO4_7, 87 MPP_C4, 88 N.C_G_7, 89 VDD3D_3, 90 IRQ, 91 ADATA_CASO, 92 ADATA_SP, 93 ADATA_REC, 94 VDD1D_4, 95 ASYNC_REC, 96 ACLK_REC, 97 ADATA_PB, 98 ASYNC_PB, 99 ACLK_PB, 100 ADATA_CASI, 101 N.C_G_8, 102 RSTB, 103 SDA, 104 SCL, 105 VDD3D_4, 106 N.C_G_9, 107 MPP8_NC, 108 MPP7_NC, 109 MPP6_NC, 110 MPP5_NC, 111 MPP4, 112 MPP3, 113 MPP2, 114 MPP1, 115 N.C_G_10, 116 N.C_G_11, 117 SA0, 118 SA1, 119 VDD1D_5, 120 TEST, 121 N.C_G_12, 122 N.C_G_13, 123 N.C_G_14, 124 VDD3A_5, 125 VDD3A_6, 126 VIN1, 127 N.C_G_15, 128 VIN2, 129 PAD_GND
text: VIDEO IN; 3.3V; 1.2V; COAXIAL; AUDIO IN; AUDIO OUT; I2C; INTERRUPT; SYS CLOCK; NC; AUDIO I/F; GND; DAC; REF

## OSC4P-A_0
designator OSC?
PARTS: 1; DEVICE: OSC4P-A; LEVEL: STD; OriginalSymbolOrigin: (0,0)
pins: 1 OE/ST, 2 GND (io), 3 OUT (hiz), 4 VDD

## PCA9306DCTT
designator U?  DEVICE: PCA9306DCTT
PARTS: 1; OriginalSymbolOrigin: (0,0); LEVEL: STD
pins: 1 GND (io), 2 VREF1 (io), 3 SCL1 (io), 4 SDA1 (io), 5 SDA2 (io), 6 SCL2 (io), 7 VREF2 (io), 8 EN (in)

## PWC3_A_0
designator J?
PARTS: 1; DEVICE: DC-005-B; LEVEL: STD; PKG_TYPE: PWC0103-M-C; CODE: 14190002; OriginalSymbolOrigin: (0,0)
pins: 1 A1 (io), 2 A2 (io), 3 A3 (io)

## R
designator R?
pins: 1, 2

## R_1
designator R?
PARTS: 1; OriginalSymbolOrigin: (10,20); PINSWAP: (A,B); DEVICE: R; PKG_TYPE: 2; LEVEL: STD
pins: 1 A, 2 B

## R_Dup1
designator R?
PARTS: 1; OriginalSymbolOrigin: (0,0); PINSWAP: (A,B); DEVICE: R; PKG_TYPE: 2; LEVEL: STD
pins: 1 A (io), 2 B (io)

## RCLAMP0524P_0
designator D?  DEVICE: RCLAMP0524P
PARTS: 1; OriginalSymbolOrigin: (0,0); LEVEL: STD
pins: 1 IN1, 2 IN2, 3 GND1, 4 IN3, 5 IN4, 6 NC4, 7 NC3, 8 GND2, 9 NC2, 10 NC1

## RCLAMP0524P_1
designator D?  DEVICE: RCLAMP0524P
PARTS: 1; LEVEL: STD; OriginalSymbolOrigin: (0,0)
pins: 1 IN1, 2 IN2, 3 GND1, 4 IN3, 5 IN4, 6 NC4, 7 NC3, 8 GND2, 9 NC2, 10 NC1

## RND8-4
designator RN?
PARTS: 1; OriginalSymbolOrigin: (0,0); PKG_TYPE: 8; LEVEL: STD; DEVICE: YC164JR_071K
pins: 1 (io), 2 (io), 3 (io), 4 (io), 5 (io), 6 (io), 7 (io), 8 (io)

## RT9065
designator U?  DEVICE: RT9065
PARTS: 1; OriginalSymbolOrigin: (0,0); LEVEL: STD
pins: 1 VIN (io), 2 GND (io), 3 EN (io), 4 BP (io), 5 ADJ (io), 6 VOUT (io)

## RT9078_0
designator U?  DEVICE: RT9078
PARTS: 1; OriginalSymbolOrigin: (0,0); LEVEL: STD; HETERO: RT9078
pins: 1 VIN, 2 GROUND, 3 EN, 4 FB, 5 VOUT

## SC4215A_0
designator U?  DEVICE: SC4215A
PARTS: 1; OriginalSymbolOrigin: (0,0); LEVEL: STD
pins: 1 NC1, 2 EN, 3 VIN, 4 NC2, 5 NC3, 6 VO, 7 FB, 8 GND1, 9 GND2

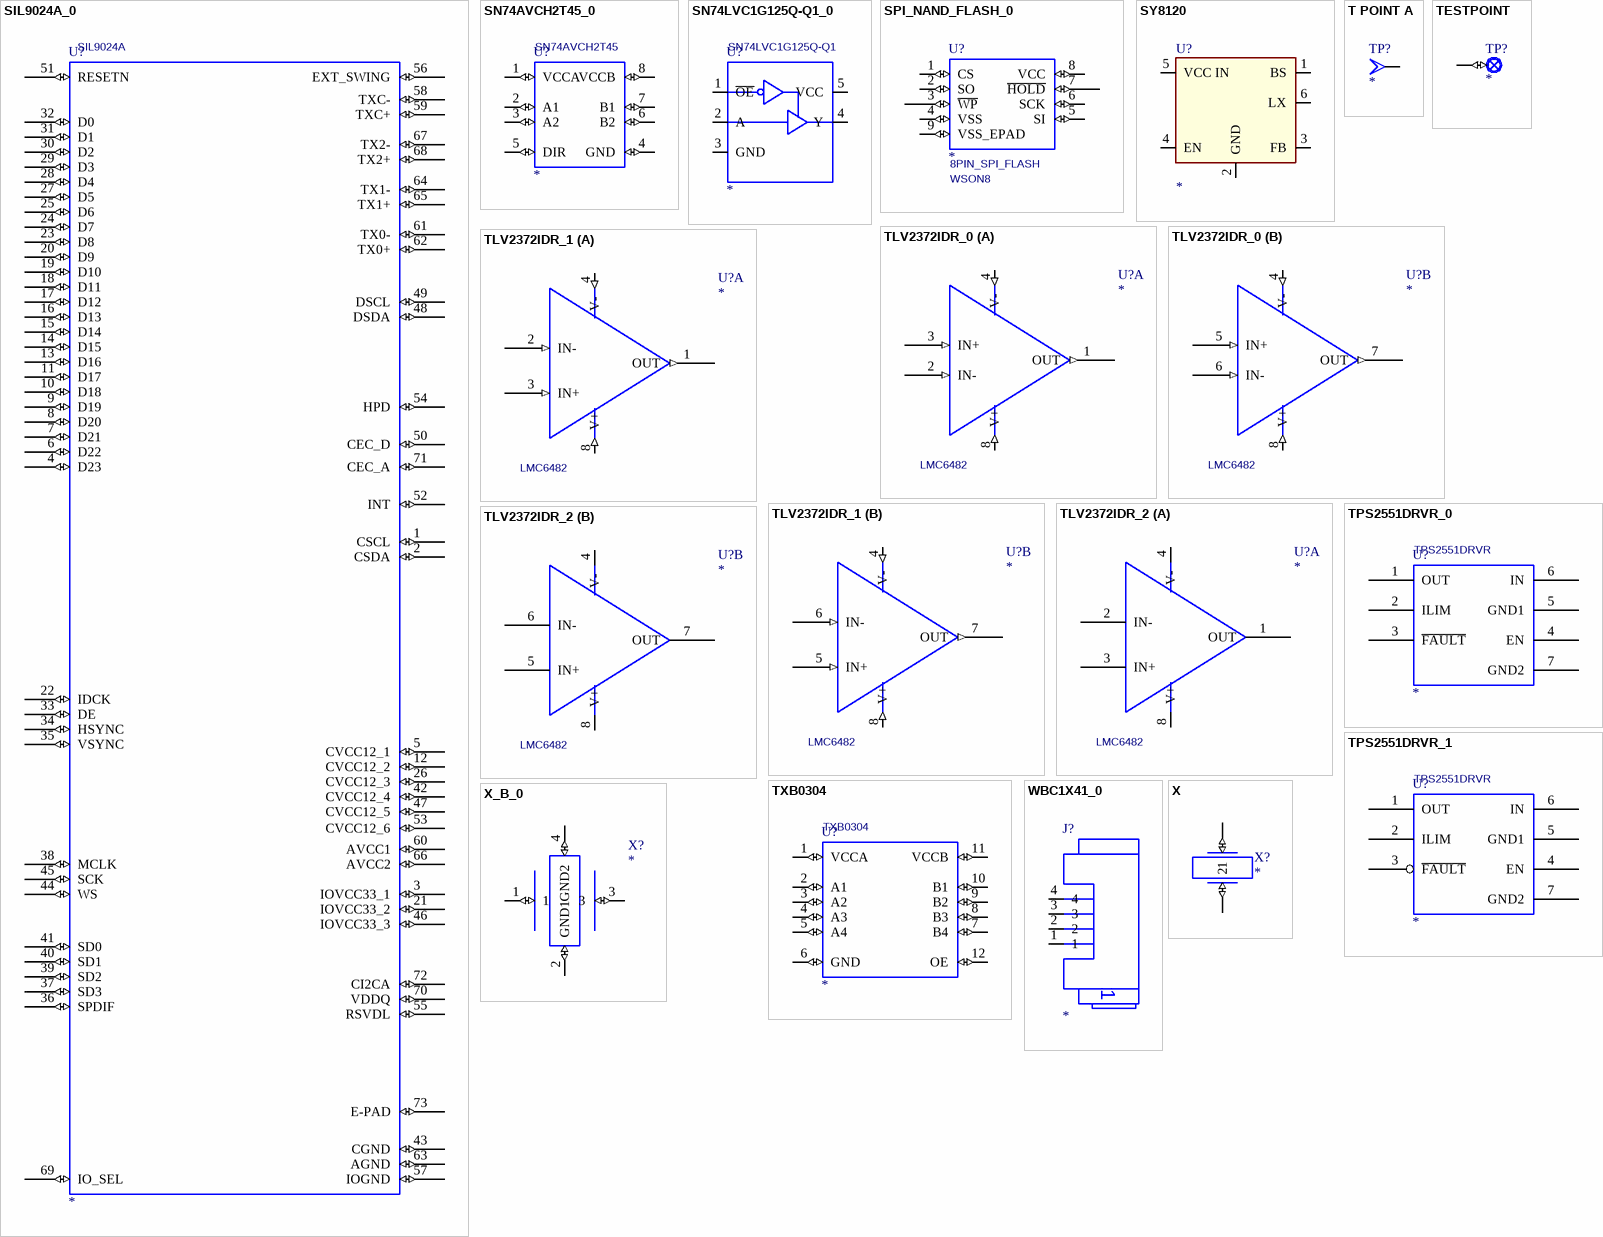
[diagram p23: symbols SIL9024A_0 to X_B_0]

## SIL9024A_0
designator U?  DEVICE: SIL9024A
PARTS: 1; OriginalSymbolOrigin: (0,0); LEVEL: STD; PKG_TYPE: QFN-72
pins: 1 CSCL (io), 2 CSDA (io), 3 IOVCC33_1 (io), 4 D23 (io), 5 CVCC12_1 (io), 6 D22 (io), 7 D21 (io), 8 D20 (io), 9 D19 (io), 10 D18 (io), 11 D17 (io), 12 CVCC12_2 (io), 13 D16 (io), 14 D15 (io), 15 D14 (io), 16 D13 (io), 17 D12 (io), 18 D11 (io), 19 D10 (io), 20 D9 (io), 21 IOVCC33_2 (io), 22 IDCK (io), 23 D8 (io), 24 D7 (io), 25 D6 (io), 26 CVCC12_3 (io), 27 D5 (io), 28 D4 (io), 29 D3 (io), 30 D2 (io), 31 D1 (io), 32 D0 (io), 33 DE (io), 34 HSYNC (io), 35 VSYNC (io), 36 SPDIF (io), 37 SD3 (io), 38 MCLK (io), 39 SD2 (io), 40 SD1 (io), 41 SD0 (io), 42 CVCC12_4 (io), 43 CGND (io), 44 WS (io), 45 SCK (io), 46 IOVCC33_3 (io), 47 CVCC12_5 (io), 48 DSDA (io), 49 DSCL (io), 50 CEC_D (io), 51 RESETN (io), 52 INT (io), 53 CVCC12_6 (io), 54 HPD (io), 55 RSVDL (io), 56 EXT_SWING (io), 57 IOGND (io), 58 TXC- (io), 59 TXC+ (io), 60 AVCC1 (io), 61 TX0- (io), 62 TX0+ (io), 63 AGND (io), 64 TX1- (io), 65 TX1+ (io), 66 AVCC2 (io), 67 TX2- (io), 68 TX2+ (io), 69 IO_SEL (io), 70 VDDQ (io), 71 CEC_A (io), 72 CI2CA (io), 73 E-PAD (io)

## SN74AVCH2T45_0
designator U?  DEVICE: SN74AVCH2T45
PARTS: 1; OriginalSymbolOrigin: (0,0); CODE: 220950; PKG_TYPE: 8; LEVEL: STD
pins: 1 VCCA (io), 2 A1 (io), 3 A2 (io), 4 GND (io), 5 DIR (io), 6 B2 (io), 7 B1 (io), 8 VCCB (io)

## SN74LVC1G125Q-Q1_0
designator U?  DEVICE: SN74LVC1G125Q-Q1
PARTS: 1; OriginalSymbolOrigin: (0,0); CODE: 94854; PKG_TYPE: 5; LEVEL: STD
pins: 1 ~{OE}, 2 A, 3 GND, 4 Y, 5 VCC

## SPI_NAND_FLASH_0
designator U?  PKG_TYPE: WSON8  DEVICE: 8PIN_SPI_FLASH
PARTS: 1; OriginalSymbolOrigin: (0,0); LEVEL: STD
pins: 1 CS (io), 2 SO (io), 3 ~{WP} (io), 4 VSS (io), 5 SI (io), 6 SCK (io), 7 ~{HOLD} (io), 8 VCC (io), 9 VSS_EPAD (io)

## SY8120
designator U?
footprint SOT23-6
pins: 1 BS, 2 GND, 3 FB, 4 EN, 5 VCC IN, 6 LX

## T POINT A
designator TP?
pins: 1 TP

## TESTPOINT
designator TP?
PARTS: 1; OriginalSymbolOrigin: (0,0); PKG_TYPE: TP24-SMD; LEVEL: STD; DEVICE: TEST-SMD
pins: 1 (io)

## TLV2372IDR_0
designator U?  DEVICE: LMC6482
PARTS: 2; OriginalSymbolOrigin: (20,110); LEVEL: STD
part A pins: 1 OUT (out), 2 IN- (in), 3 IN+ (in), 4 V- (in), 8 V+ (in)
part B pins: 4 V- (in), 5 IN+ (in), 6 IN- (in), 7 OUT (out), 8 V+ (in)

## TLV2372IDR_1
designator U?  DEVICE: LMC6482
PARTS: 2; OriginalSymbolOrigin: (20,110); LEVEL: STD
part A pins: 1 OUT (out), 2 IN- (in), 3 IN+ (in), 4 V- (in), 8 V+ (in)
part B pins: 4 V- (in), 5 IN+ (in), 6 IN- (in), 7 OUT (out), 8 V+ (in)

## TLV2372IDR_2
designator U?  DEVICE: LMC6482
PARTS: 2; OriginalSymbolOrigin: (20,110); LEVEL: STD
part A pins: 1 OUT, 2 IN-, 3 IN+, 4 V-, 8 V+
part B pins: 4 V-, 5 IN+, 6 IN-, 7 OUT, 8 V+

## TPS2551DRVR_0
designator U?  DEVICE: TPS2551DRVR
PARTS: 1; OriginalSymbolOrigin: (0,0); LEVEL: STD
pins: 1 OUT, 2 ILIM, 3 ~{FAULT}, 4 EN, 5 GND1, 6 IN, 7 GND2

## TPS2551DRVR_1
designator U?  DEVICE: TPS2551DRVR
PARTS: 1; LEVEL: STD; OriginalSymbolOrigin: (0,0)
pins: 1 OUT, 2 ILIM, 3 ~{FAULT}, 4 EN, 5 GND1, 6 IN, 7 GND2

## TXB0304
designator U?  DEVICE: TXB0304
PARTS: 1; OriginalSymbolOrigin: (0,0); LEVEL: STD
pins: 1 VCCA (io), 2 A1 (io), 3 A2 (io), 4 A3 (io), 5 A4 (io), 6 GND (io), 7 B4 (io), 8 B3 (io), 9 B2 (io), 10 B1 (io), 11 VCCB (io), 12 OE (io)

## WBC1X41_0
designator J?
PARTS: 1; OriginalSymbolOrigin: (10,130); CODE: 14100186; PKG_TYPE: SHEAD-4P-49; LEVEL: STD; DEVICE: WBC1X4
pins: 1, 2, 3, 4

## X
designator X?
PARTS: 1; OriginalSymbolOrigin: (0,0); LEVEL: STD; PKG_TYPE: XTAL2-192; DEVICE: XIHEEC1728; CODE: 12020119
pins: 1 (io), 2 (io)

## X_B_0
designator X?
PARTS: 1; OriginalSymbolOrigin: (0,0); LEVEL: STD; PKG_TYPE: 4; DEVICE: X_B; CODE: ?
pins: 1 (io), 2 GND1 (io), 3 (io), 4 GND2 (io)